# Altium footprint library Button_Switch_SMD.PcbLib: 148 footprints (part 3 of 10)
Each footprint in its own frame and in the unit in brackets; x right, y up, seen from the top. Pads: shape width x height; smd on the part's side, far side on the other; paste and mask are expansions set on the pad; w line width, h text height; cw(c..) or ccw(c..) is an arc to the next point about the centre after c.
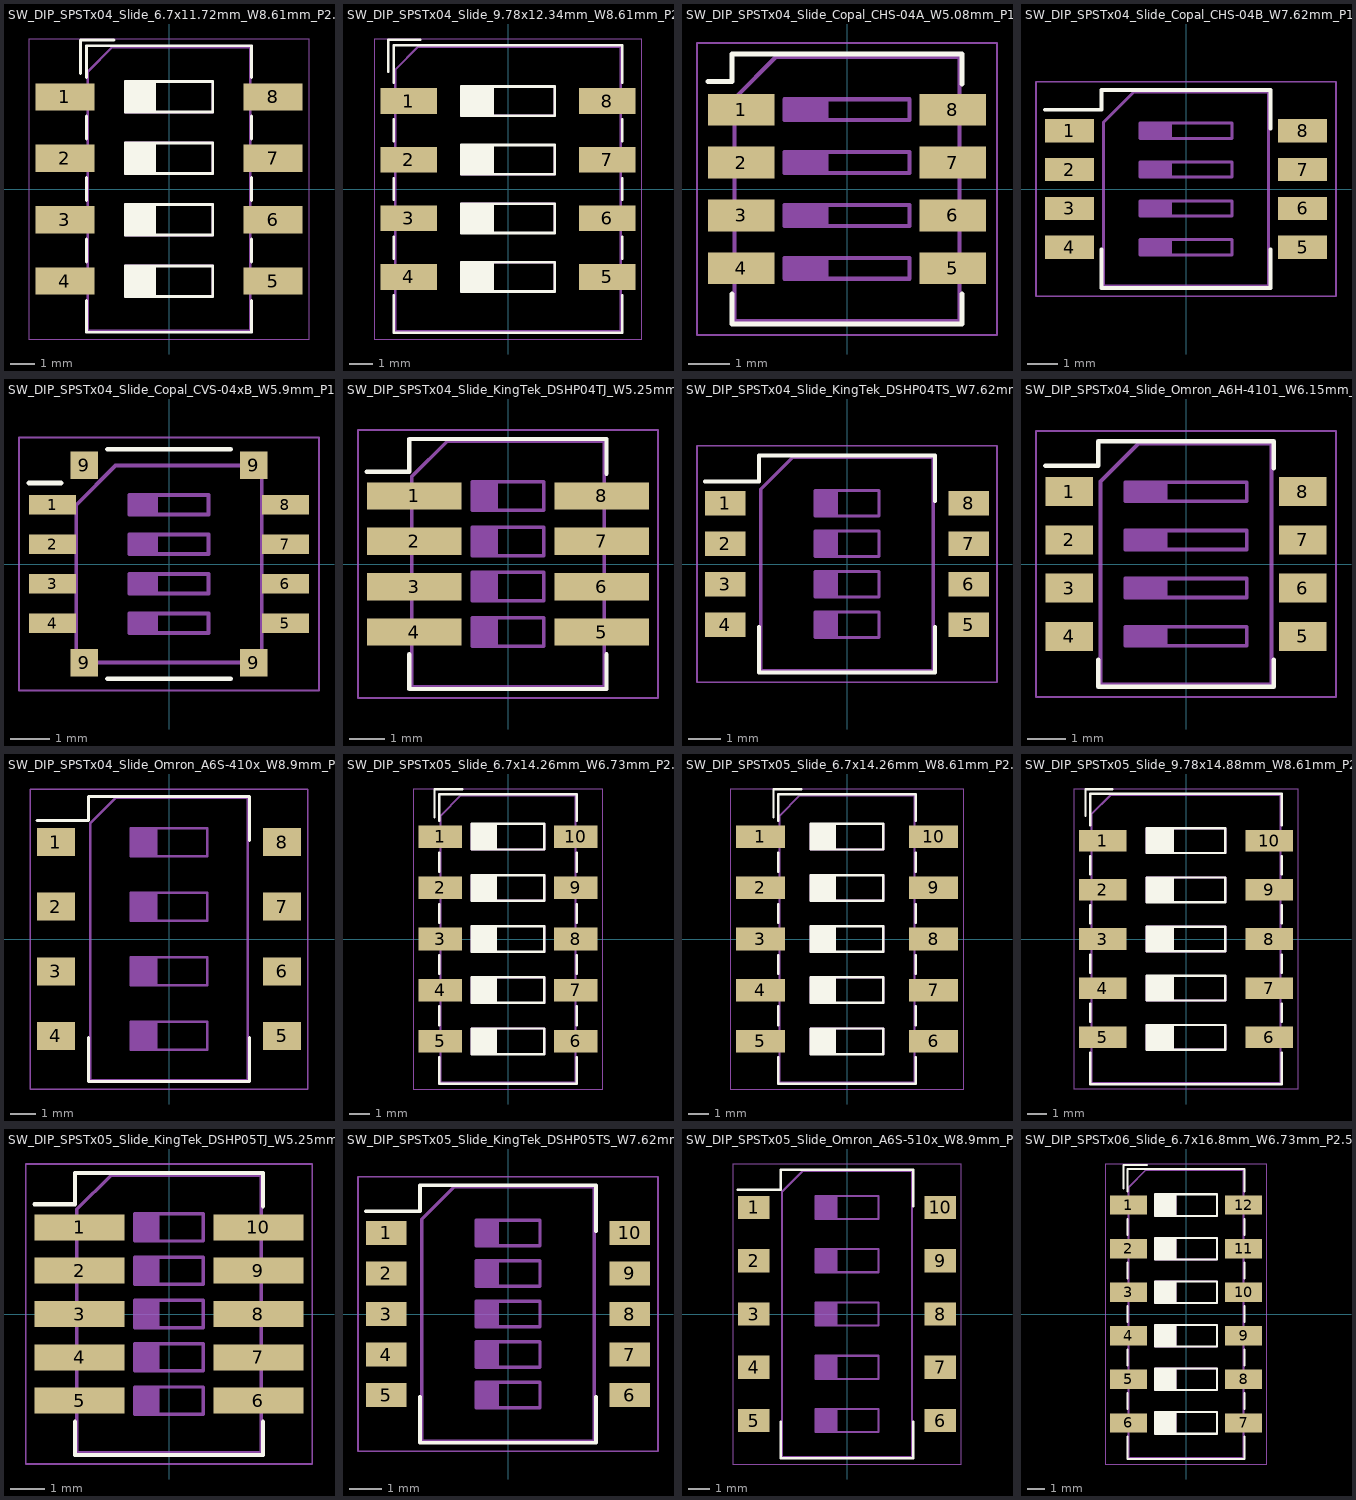
[diagram p2: the footprints below, top view; thin cyan lines are the x and y axes]

## SW_DIP_SPSTx04_Slide_6.7x11.72mm_W8.61mm_P2.54mm_LowProfile [mm]
pads (8):
  rect 2.44x1.12 smd: 1(-4.305,3.81) 2(-4.305,1.27) 3(-4.305,-1.27) 4(-4.305,-3.81) 5(4.305,-3.81) 6(4.305,-1.27) 7(4.305,1.27) 8(4.305,3.81)
F.SilkS:
  lines w0.12: -3.65,4.777 -3.65,6.16 -2.267,6.16 ; -3.41,-4.61 -3.41,-5.92 3.41,-5.92 3.41,-4.61 ; -3.41,-3.01 -3.41,-2.07 ; -3.41,-0.47 -3.41,0.47 ; -3.41,2.07 -3.41,3.01 ; -3.41,4.61 -3.41,5.92 3.41,5.92 3.41,4.61 ; -1.81,-4.375 -0.603,-4.375 ; -1.81,-4.255 -0.603,-4.255 ; -1.81,-4.135 -0.603,-4.135 ; -1.81,-4.015 -0.603,-4.015 ; -1.81,-3.895 -0.603,-3.895 ; -1.81,-3.775 -0.603,-3.775 ; -1.81,-3.655 -0.603,-3.655 ; -1.81,-3.535 -0.603,-3.535 ; -1.81,-3.415 -0.603,-3.415 ; -1.81,-3.295 -0.603,-3.295 ; -1.81,-1.835 -0.603,-1.835 ; -1.81,-1.715 -0.603,-1.715 ; -1.81,-1.595 -0.603,-1.595 ; -1.81,-1.475 -0.603,-1.475 ; -1.81,-1.355 -0.603,-1.355 ; -1.81,-1.235 -0.603,-1.235 ; -1.81,-1.115 -0.603,-1.115 ; -1.81,-0.995 -0.603,-0.995 ; -1.81,-0.875 -0.603,-0.875 ; -1.81,-0.755 -0.603,-0.755 ; -1.81,0.705 -0.603,0.705 ; -1.81,0.825 -0.603,0.825 ; -1.81,0.945 -0.603,0.945 ; -1.81,1.065 -0.603,1.065 ; -1.81,1.185 -0.603,1.185 ; -1.81,1.305 -0.603,1.305 ; -1.81,1.425 -0.603,1.425 ; -1.81,1.545 -0.603,1.545 ; -1.81,1.665 -0.603,1.665 ; -1.81,1.785 -0.603,1.785 ; -1.81,3.245 -0.603,3.245 ; -1.81,3.365 -0.603,3.365 ; -1.81,3.485 -0.603,3.485 ; -1.81,3.605 -0.603,3.605 ; -1.81,3.725 -0.603,3.725 ; -1.81,3.845 -0.603,3.845 ; -1.81,3.965 -0.603,3.965 ; -1.81,4.085 -0.603,4.085 ; -1.81,4.205 -0.603,4.205 ; -1.81,4.325 -0.603,4.325 ; -0.603,-4.445 -0.603,-3.175 ; -0.603,-1.905 -0.603,-0.635 ; -0.603,0.635 -0.603,1.905 ; -0.603,3.175 -0.603,4.445 ; 3.41,-3.01 3.41,-2.07 ; 3.41,-0.47 3.41,0.47 ; 3.41,2.07 3.41,3.01 ; -1.81,-4.445 1.81,-4.445 1.81,-3.175 -1.81,-3.175 -1.81,-4.445 ; -1.81,-1.905 -1.81,-0.635 1.81,-0.635 1.81,-1.905 -1.81,-1.905 ; -1.81,0.635 -1.81,1.905 1.81,1.905 1.81,0.635 -1.81,0.635 ; -1.81,3.175 -1.81,4.445 1.81,4.445 1.81,3.175 -1.81,3.175
F.CrtYd:
  lines w0.05: -5.8,-6.2 -5.8,6.2 5.8,6.2 5.8,-6.2 -5.8,-6.2
F.Fab:
  lines w0.1: -1.81,-4.375 -0.603,-4.375 ; -1.81,-4.275 -0.603,-4.275 ; -1.81,-4.175 -0.603,-4.175 ; -1.81,-4.075 -0.603,-4.075 ; -1.81,-3.975 -0.603,-3.975 ; -1.81,-3.875 -0.603,-3.875 ; -1.81,-3.775 -0.603,-3.775 ; -1.81,-3.675 -0.603,-3.675 ; -1.81,-3.575 -0.603,-3.575 ; -1.81,-3.475 -0.603,-3.475 ; -1.81,-3.375 -0.603,-3.375 ; -1.81,-3.275 -0.603,-3.275 ; -1.81,-1.835 -0.603,-1.835 ; -1.81,-1.735 -0.603,-1.735 ; -1.81,-1.635 -0.603,-1.635 ; -1.81,-1.535 -0.603,-1.535 ; -1.81,-1.435 -0.603,-1.435 ; -1.81,-1.335 -0.603,-1.335 ; -1.81,-1.235 -0.603,-1.235 ; -1.81,-1.135 -0.603,-1.135 ; -1.81,-1.035 -0.603,-1.035 ; -1.81,-0.935 -0.603,-0.935 ; -1.81,-0.835 -0.603,-0.835 ; -1.81,-0.735 -0.603,-0.735 ; -1.81,0.705 -0.603,0.705 ; -1.81,0.805 -0.603,0.805 ; -1.81,0.905 -0.603,0.905 ; -1.81,1.005 -0.603,1.005 ; -1.81,1.105 -0.603,1.105 ; -1.81,1.205 -0.603,1.205 ; -1.81,1.305 -0.603,1.305 ; -1.81,1.405 -0.603,1.405 ; -1.81,1.505 -0.603,1.505 ; -1.81,1.605 -0.603,1.605 ; -1.81,1.705 -0.603,1.705 ; -1.81,1.805 -0.603,1.805 ; -1.81,3.245 -0.603,3.245 ; -1.81,3.345 -0.603,3.345 ; -1.81,3.445 -0.603,3.445 ; -1.81,3.545 -0.603,3.545 ; -1.81,3.645 -0.603,3.645 ; -1.81,3.745 -0.603,3.745 ; -1.81,3.845 -0.603,3.845 ; -1.81,3.945 -0.603,3.945 ; -1.81,4.045 -0.603,4.045 ; -1.81,4.145 -0.603,4.145 ; -1.81,4.245 -0.603,4.245 ; -1.81,4.345 -0.603,4.345 ; -0.603,-4.445 -0.603,-3.175 ; -0.603,-1.905 -0.603,-0.635 ; -0.603,0.635 -0.603,1.905 ; -0.603,3.175 -0.603,4.445 ; -3.35,-5.86 -3.35,4.86 -2.35,5.86 3.35,5.86 3.35,-5.86 -3.35,-5.86 ; -1.81,-4.445 -1.81,-3.175 1.81,-3.175 1.81,-4.445 -1.81,-4.445 ; -1.81,-1.905 1.81,-1.905 1.81,-0.635 -1.81,-0.635 -1.81,-1.905 ; -1.81,0.635 -1.81,1.905 1.81,1.905 1.81,0.635 -1.81,0.635 ; -1.81,3.175 -1.81,4.445 1.81,4.445 1.81,3.175 -1.81,3.175
  text "on" at -0.237,4.766 h0.8
  text "'.Designator'" at 3.252,-3.237 h0.8

## SW_DIP_SPSTx04_Slide_9.78x12.34mm_W8.61mm_P2.54mm [mm]
pads (8):
  rect 2.44x1.12 smd: 1(-4.305,3.81) 2(-4.305,1.27) 3(-4.305,-1.27) 4(-4.305,-3.81) 5(4.305,-3.81) 6(4.305,-1.27) 7(4.305,1.27) 8(4.305,3.81)
F.SilkS:
  lines w0.12: -5.19,5.087 -5.19,6.47 -3.806,6.47 ; -4.95,-4.61 -4.95,-6.23 4.95,-6.23 4.95,-4.61 ; -4.95,-3.01 -4.95,-2.07 ; -4.95,-0.47 -4.95,0.47 ; -4.95,2.07 -4.95,3.01 ; -4.95,4.61 -4.95,6.23 4.95,6.23 4.95,4.61 ; -2.03,-4.375 -0.677,-4.375 ; -2.03,-4.255 -0.677,-4.255 ; -2.03,-4.135 -0.677,-4.135 ; -2.03,-4.015 -0.677,-4.015 ; -2.03,-3.895 -0.677,-3.895 ; -2.03,-3.775 -0.677,-3.775 ; -2.03,-3.655 -0.677,-3.655 ; -2.03,-3.535 -0.677,-3.535 ; -2.03,-3.415 -0.677,-3.415 ; -2.03,-3.295 -0.677,-3.295 ; -2.03,-1.835 -0.677,-1.835 ; -2.03,-1.715 -0.677,-1.715 ; -2.03,-1.595 -0.677,-1.595 ; -2.03,-1.475 -0.677,-1.475 ; -2.03,-1.355 -0.677,-1.355 ; -2.03,-1.235 -0.677,-1.235 ; -2.03,-1.115 -0.677,-1.115 ; -2.03,-0.995 -0.677,-0.995 ; -2.03,-0.875 -0.677,-0.875 ; -2.03,-0.755 -0.677,-0.755 ; -2.03,0.705 -0.677,0.705 ; -2.03,0.825 -0.677,0.825 ; -2.03,0.945 -0.677,0.945 ; -2.03,1.065 -0.677,1.065 ; -2.03,1.185 -0.677,1.185 ; -2.03,1.305 -0.677,1.305 ; -2.03,1.425 -0.677,1.425 ; -2.03,1.545 -0.677,1.545 ; -2.03,1.665 -0.677,1.665 ; -2.03,1.785 -0.677,1.785 ; -2.03,3.245 -0.677,3.245 ; -2.03,3.365 -0.677,3.365 ; -2.03,3.485 -0.677,3.485 ; -2.03,3.605 -0.677,3.605 ; -2.03,3.725 -0.677,3.725 ; -2.03,3.845 -0.677,3.845 ; -2.03,3.965 -0.677,3.965 ; -2.03,4.085 -0.677,4.085 ; -2.03,4.205 -0.677,4.205 ; -2.03,4.325 -0.677,4.325 ; -0.677,-4.445 -0.677,-3.175 ; -0.677,-1.905 -0.677,-0.635 ; -0.677,0.635 -0.677,1.905 ; -0.677,3.175 -0.677,4.445 ; 4.95,-3.01 4.95,-2.07 ; 4.95,-0.47 4.95,0.47 ; 4.95,2.07 4.95,3.01 ; -2.03,-4.445 -2.03,-3.175 2.03,-3.175 2.03,-4.445 -2.03,-4.445 ; -2.03,-1.905 2.03,-1.905 2.03,-0.635 -2.03,-0.635 -2.03,-1.905 ; -2.03,0.635 -2.03,1.905 2.03,1.905 2.03,0.635 -2.03,0.635 ; -2.03,3.175 -2.03,4.445 2.03,4.445 2.03,3.175 -2.03,3.175
F.CrtYd:
  lines w0.05: -5.8,-6.5 5.8,-6.5 5.8,6.5 -5.8,6.5 -5.8,-6.5
F.Fab:
  lines w0.1: -2.03,-4.375 -0.677,-4.375 ; -2.03,-4.275 -0.677,-4.275 ; -2.03,-4.175 -0.677,-4.175 ; -2.03,-4.075 -0.677,-4.075 ; -2.03,-3.975 -0.677,-3.975 ; -2.03,-3.875 -0.677,-3.875 ; -2.03,-3.775 -0.677,-3.775 ; -2.03,-3.675 -0.677,-3.675 ; -2.03,-3.575 -0.677,-3.575 ; -2.03,-3.475 -0.677,-3.475 ; -2.03,-3.375 -0.677,-3.375 ; -2.03,-3.275 -0.677,-3.275 ; -2.03,-1.835 -0.677,-1.835 ; -2.03,-1.735 -0.677,-1.735 ; -2.03,-1.635 -0.677,-1.635 ; -2.03,-1.535 -0.677,-1.535 ; -2.03,-1.435 -0.677,-1.435 ; -2.03,-1.335 -0.677,-1.335 ; -2.03,-1.235 -0.677,-1.235 ; -2.03,-1.135 -0.677,-1.135 ; -2.03,-1.035 -0.677,-1.035 ; -2.03,-0.935 -0.677,-0.935 ; -2.03,-0.835 -0.677,-0.835 ; -2.03,-0.735 -0.677,-0.735 ; -2.03,0.705 -0.677,0.705 ; -2.03,0.805 -0.677,0.805 ; -2.03,0.905 -0.677,0.905 ; -2.03,1.005 -0.677,1.005 ; -2.03,1.105 -0.677,1.105 ; -2.03,1.205 -0.677,1.205 ; -2.03,1.305 -0.677,1.305 ; -2.03,1.405 -0.677,1.405 ; -2.03,1.505 -0.677,1.505 ; -2.03,1.605 -0.677,1.605 ; -2.03,1.705 -0.677,1.705 ; -2.03,1.805 -0.677,1.805 ; -2.03,3.245 -0.677,3.245 ; -2.03,3.345 -0.677,3.345 ; -2.03,3.445 -0.677,3.445 ; -2.03,3.545 -0.677,3.545 ; -2.03,3.645 -0.677,3.645 ; -2.03,3.745 -0.677,3.745 ; -2.03,3.845 -0.677,3.845 ; -2.03,3.945 -0.677,3.945 ; -2.03,4.045 -0.677,4.045 ; -2.03,4.145 -0.677,4.145 ; -2.03,4.245 -0.677,4.245 ; -2.03,4.345 -0.677,4.345 ; -0.677,-4.445 -0.677,-3.175 ; -0.677,-1.905 -0.677,-0.635 ; -0.677,0.635 -0.677,1.905 ; -0.677,3.175 -0.677,4.445 ; -4.89,-6.17 -4.89,5.17 -3.89,6.17 4.89,6.17 4.89,-6.17 -4.89,-6.17 ; -2.03,-4.445 -2.03,-3.175 2.03,-3.175 2.03,-4.445 -2.03,-4.445 ; -2.03,-1.905 2.03,-1.905 2.03,-0.635 -2.03,-0.635 -2.03,-1.905 ; -2.03,0.635 2.03,0.635 2.03,1.905 -2.03,1.905 -2.03,0.635 ; -2.03,3.175 2.03,3.175 2.03,4.445 -2.03,4.445 -2.03,3.175
  text "on" at 0.643,4.921 h0.8
  text "'.Designator'" at 4.132,-3.237 h0.8

## SW_DIP_SPSTx04_Slide_Copal_CHS-04A_W5.08mm_P1.27mm_JPin [mm]
pads (8):
  rect 1.6x0.76 smd: 1(-2.54,1.905) 2(-2.54,0.635) 3(-2.54,-0.635) 4(-2.54,-1.905) 5(2.54,-1.905) 6(2.54,-0.635) 7(2.54,0.635) 8(2.54,1.905)
F.SilkS:
  lines w0.12: -3.34,2.585 -2.761,2.585 -2.761,3.235 2.76,3.235 2.76,2.525 ; -2.761,-2.525 -2.761,-3.235 2.76,-3.235 2.76,-2.525
F.CrtYd:
  lines w0.05: -3.6,-3.5 -3.6,3.5 3.6,3.5 3.6,-3.5 -3.6,-3.5
F.Fab:
  lines w0.1: -1.5,-2.055 -0.5,-2.055 ; -1.5,-1.955 -0.5,-1.955 ; -1.5,-1.855 -0.5,-1.855 ; -1.5,-1.755 -0.5,-1.755 ; -1.5,-0.785 -0.5,-0.785 ; -1.5,-0.685 -0.5,-0.685 ; -1.5,-0.585 -0.5,-0.585 ; -1.5,-0.485 -0.5,-0.485 ; -1.5,0.485 -0.5,0.485 ; -1.5,0.585 -0.5,0.585 ; -1.5,0.685 -0.5,0.685 ; -1.5,0.785 -0.5,0.785 ; -1.5,1.755 -0.5,1.755 ; -1.5,1.855 -0.5,1.855 ; -1.5,1.955 -0.5,1.955 ; -1.5,2.055 -0.5,2.055 ; -0.5,-2.155 -0.5,-1.655 ; -0.5,-0.885 -0.5,-0.385 ; -0.5,0.385 -0.5,0.885 ; -0.5,1.655 -0.5,2.155 ; -2.7,-3.175 -2.7,2.175 -1.7,3.175 2.7,3.175 2.7,-3.175 -2.7,-3.175 ; -1.5,-2.155 1.5,-2.155 1.5,-1.655 -1.5,-1.655 -1.5,-2.155 ; -1.5,-0.885 -1.5,-0.385 1.5,-0.385 1.5,-0.885 -1.5,-0.885 ; -1.5,0.385 -1.5,0.885 1.5,0.885 1.5,0.385 -1.5,0.385 ; -1.5,1.655 -1.5,2.155 1.5,2.155 1.5,1.655 -1.5,1.655
  text "'.Designator'" at 2.772,-3.237 h0.8
  text "on" at 0.165,2.278 h0.8

## SW_DIP_SPSTx04_Slide_Copal_CHS-04B_W7.62mm_P1.27mm [mm]
pads (8):
  rect 1.6x0.76 smd: 1(-3.81,1.905) 2(-3.81,0.635) 3(-3.81,-0.635) 4(-3.81,-1.905) 5(3.81,-1.905) 6(3.81,-0.635) 7(3.81,0.635) 8(3.81,1.905)
F.SilkS:
  lines w0.12: -4.61,2.585 -2.76,2.585 -2.76,3.235 2.76,3.235 2.76,1.966 ; -2.76,-1.965 -2.76,-3.235 2.76,-3.235 2.76,-1.965
F.CrtYd:
  lines w0.05: -4.9,-3.5 -4.9,3.5 4.9,3.5 4.9,-3.5 -4.9,-3.5
F.Fab:
  lines w0.1: -1.5,-2.055 -0.5,-2.055 ; -1.5,-1.955 -0.5,-1.955 ; -1.5,-1.855 -0.5,-1.855 ; -1.5,-1.755 -0.5,-1.755 ; -1.5,-0.785 -0.5,-0.785 ; -1.5,-0.685 -0.5,-0.685 ; -1.5,-0.585 -0.5,-0.585 ; -1.5,-0.485 -0.5,-0.485 ; -1.5,0.485 -0.5,0.485 ; -1.5,0.585 -0.5,0.585 ; -1.5,0.685 -0.5,0.685 ; -1.5,0.785 -0.5,0.785 ; -1.5,1.755 -0.5,1.755 ; -1.5,1.855 -0.5,1.855 ; -1.5,1.955 -0.5,1.955 ; -1.5,2.055 -0.5,2.055 ; -0.5,-2.155 -0.5,-1.655 ; -0.5,-0.885 -0.5,-0.385 ; -0.5,0.385 -0.5,0.885 ; -0.5,1.655 -0.5,2.155 ; -2.7,-3.175 -2.7,2.175 -1.7,3.175 2.7,3.175 2.7,-3.175 -2.7,-3.175 ; -1.5,-2.155 1.5,-2.155 1.5,-1.655 -1.5,-1.655 -1.5,-2.155 ; -1.5,-0.885 1.5,-0.885 1.5,-0.385 -1.5,-0.385 -1.5,-0.885 ; -1.5,0.385 -1.5,0.885 1.5,0.885 1.5,0.385 -1.5,0.385 ; -1.5,1.655 1.5,1.655 1.5,2.155 -1.5,2.155 -1.5,1.655
  text "on" at -0.47,2.278 h0.8
  text "'.Designator'" at 2.772,-3.237 h0.8

## SW_DIP_SPSTx04_Slide_Copal_CVS-04xB_W5.9mm_P1mm [mm]
pads (12):
  rect 1.2x0.5 smd: 1(-2.95,1.5) 2(-2.95,0.5) 3(-2.95,-0.5) 4(-2.95,-1.5) 5(2.95,-1.5) 6(2.95,-0.5) 7(2.95,0.5) 8(2.95,1.5)
  rect 0.7x0.7 smd: 9(-2.15,-2.5) 9(-2.15,2.5) 9(2.15,-2.5) 9(2.15,2.5)
F.SilkS:
  lines w0.12: -3.55,2.05 -2.739,2.05 ; -1.56,-2.91 1.561,-2.91 ; -1.56,2.91 1.561,2.91
F.CrtYd:
  lines w0.05: -3.8,-3.2 -3.8,3.2 3.8,3.2 3.8,-3.2 -3.8,-3.2
F.Fab:
  lines w0.1: -1,-1.65 -0.333,-1.65 ; -1,-1.55 -0.333,-1.55 ; -1,-1.45 -0.333,-1.45 ; -1,-1.35 -0.333,-1.35 ; -1,-0.65 -0.333,-0.65 ; -1,-0.55 -0.333,-0.55 ; -1,-0.45 -0.333,-0.45 ; -1,-0.35 -0.333,-0.35 ; -1,0.35 -0.333,0.35 ; -1,0.45 -0.333,0.45 ; -1,0.55 -0.333,0.55 ; -1,0.65 -0.333,0.65 ; -1,1.35 -0.333,1.35 ; -1,1.45 -0.333,1.45 ; -1,1.55 -0.333,1.55 ; -1,1.65 -0.333,1.65 ; -0.333,-1.75 -0.333,-1.25 ; -0.333,-0.75 -0.333,-0.25 ; -0.333,0.25 -0.333,0.75 ; -0.333,1.25 -0.333,1.75 ; -2.35,-2.5 2.35,-2.5 2.35,2.5 -1.35,2.5 -2.35,1.5 -2.35,-2.5 ; -1,-1.75 -1,-1.25 1,-1.25 1,-1.75 -1,-1.75 ; -1,-0.75 1,-0.75 1,-0.25 -1,-0.25 -1,-0.75 ; -1,0.25 -1,0.75 1,0.75 1,0.25 -1,0.25 ; -1,1.25 -1,1.75 1,1.75 1,1.25 -1,1.25
  text "on" at -0.465,1.738 h0.8
  text "'.Designator'" at 2.347,-3.237 h0.8

## SW_DIP_SPSTx04_Slide_KingTek_DSHP04TJ_W5.25mm_P1.27mm_JPin [mm]
pads (8):
  rect 2.65x0.76 smd: 1(-2.625,1.905) 2(-2.625,0.635) 3(-2.625,-0.635) 4(-2.625,-1.905) 5(2.625,-1.905) 6(2.625,-0.635) 7(2.625,0.635) 8(2.625,1.905)
F.SilkS:
  lines w0.12: -3.951,2.585 -2.761,2.585 -2.761,3.5 2.76,3.5 2.76,2.525 ; -2.761,-2.525 -2.761,-3.5 2.76,-3.5 2.76,-2.525
F.CrtYd:
  lines w0.05: -4.2,-3.75 4.2,-3.75 4.2,3.75 -4.2,3.75 -4.2,-3.75
F.Fab:
  lines w0.1: -1,-2.205 -0.333,-2.205 ; -1,-2.105 -0.333,-2.105 ; -1,-2.005 -0.333,-2.005 ; -1,-1.905 -0.333,-1.905 ; -1,-1.805 -0.333,-1.805 ; -1,-1.705 -0.333,-1.705 ; -1,-1.605 -0.333,-1.605 ; -1,-0.935 -0.333,-0.935 ; -1,-0.835 -0.333,-0.835 ; -1,-0.735 -0.333,-0.735 ; -1,-0.635 -0.333,-0.635 ; -1,-0.535 -0.333,-0.535 ; -1,-0.435 -0.333,-0.435 ; -1,-0.335 -0.333,-0.335 ; -1,0.335 -0.333,0.335 ; -1,0.435 -0.333,0.435 ; -1,0.535 -0.333,0.535 ; -1,0.635 -0.333,0.635 ; -1,0.735 -0.333,0.735 ; -1,0.835 -0.333,0.835 ; -1,0.935 -0.333,0.935 ; -1,1.605 -0.333,1.605 ; -1,1.705 -0.333,1.705 ; -1,1.805 -0.333,1.805 ; -1,1.905 -0.333,1.905 ; -1,2.005 -0.333,2.005 ; -1,2.105 -0.333,2.105 ; -1,2.205 -0.333,2.205 ; -0.333,-2.305 -0.333,-1.505 ; -0.333,-1.035 -0.333,-0.235 ; -0.333,0.235 -0.333,1.035 ; -0.333,1.505 -0.333,2.305 ; -2.7,-3.44 2.7,-3.44 2.7,3.44 -1.7,3.44 -2.7,2.44 -2.7,-3.44 ; -1,-2.305 -1,-1.505 1,-1.505 1,-2.305 -1,-2.305 ; -1,-1.035 -1,-0.235 1,-0.235 1,-1.035 -1,-1.035 ; -1,0.235 1,0.235 1,1.035 -1,1.035 -1,0.235 ; -1,1.505 1,1.505 1,2.305 -1,2.305 -1,1.505
  text "on" at -0.127,2.486 h0.8
  text "'.Designator'" at 2.522,-3.237 h0.8

## SW_DIP_SPSTx04_Slide_KingTek_DSHP04TS_W7.62mm_P1.27mm [mm]
pads (8):
  rect 1.27x0.76 smd: 1(-3.81,1.905) 2(-3.81,0.635) 3(-3.81,-0.635) 4(-3.81,-1.905) 5(3.81,-1.905) 6(3.81,-0.635) 7(3.81,0.635) 8(3.81,1.905)
F.SilkS:
  lines w0.12: -4.446,2.585 -2.76,2.585 -2.76,3.401 2.76,3.401 2.76,1.966 ; -2.76,-1.966 -2.76,-3.401 2.76,-3.401 2.76,-1.966
F.CrtYd:
  lines w0.05: -4.7,-3.7 -4.7,3.7 4.7,3.7 4.7,-3.7 -4.7,-3.7
F.Fab:
  lines w0.1: -1,-2.205 -0.333,-2.205 ; -1,-2.105 -0.333,-2.105 ; -1,-2.005 -0.333,-2.005 ; -1,-1.905 -0.333,-1.905 ; -1,-1.805 -0.333,-1.805 ; -1,-1.705 -0.333,-1.705 ; -1,-1.605 -0.333,-1.605 ; -1,-0.935 -0.333,-0.935 ; -1,-0.835 -0.333,-0.835 ; -1,-0.735 -0.333,-0.735 ; -1,-0.635 -0.333,-0.635 ; -1,-0.535 -0.333,-0.535 ; -1,-0.435 -0.333,-0.435 ; -1,-0.335 -0.333,-0.335 ; -1,0.335 -0.333,0.335 ; -1,0.435 -0.333,0.435 ; -1,0.535 -0.333,0.535 ; -1,0.635 -0.333,0.635 ; -1,0.735 -0.333,0.735 ; -1,0.835 -0.333,0.835 ; -1,0.935 -0.333,0.935 ; -1,1.605 -0.333,1.605 ; -1,1.705 -0.333,1.705 ; -1,1.805 -0.333,1.805 ; -1,1.905 -0.333,1.905 ; -1,2.005 -0.333,2.005 ; -1,2.105 -0.333,2.105 ; -1,2.205 -0.333,2.205 ; -0.333,-2.305 -0.333,-1.505 ; -0.333,-1.035 -0.333,-0.235 ; -0.333,0.235 -0.333,1.035 ; -0.333,1.505 -0.333,2.305 ; -2.7,-3.34 -2.7,2.34 -1.7,3.34 2.7,3.34 2.7,-3.34 -2.7,-3.34 ; -1,-2.305 -1,-1.505 1,-1.505 1,-2.305 -1,-2.305 ; -1,-1.035 1,-1.035 1,-0.235 -1,-0.235 -1,-1.035 ; -1,0.235 1,0.235 1,1.035 -1,1.035 -1,0.235 ; -1,1.505 1,1.505 1,2.305 -1,2.305 -1,1.505
  text "'.Designator'" at 2.522,-3.237 h0.8
  text "on" at -0.72,2.436 h0.8

## SW_DIP_SPSTx04_Slide_Omron_A6H-4101_W6.15mm_P1.27mm [mm]
pads (8):
  rect 1.25x0.76 smd: 1(-3.075,1.905) 2(-3.075,0.635) 3(-3.075,-0.635) 4(-3.075,-1.905) 5(3.075,-1.905) 6(3.075,-0.635) 7(3.075,0.635) 8(3.075,1.905)
F.SilkS:
  lines w0.12: -3.7,2.585 -2.309,2.585 -2.309,3.235 2.31,3.235 2.31,2.525 ; -2.309,-2.525 -2.309,-3.235 2.31,-3.235 2.31,-2.525
F.CrtYd:
  lines w0.05: -3.95,-3.5 -3.95,3.5 3.95,3.5 3.95,-3.5 -3.95,-3.5
F.Fab:
  lines w0.1: -1.6,-2.055 -0.533,-2.055 ; -1.6,-1.955 -0.533,-1.955 ; -1.6,-1.855 -0.533,-1.855 ; -1.6,-1.755 -0.533,-1.755 ; -1.6,-0.785 -0.533,-0.785 ; -1.6,-0.685 -0.533,-0.685 ; -1.6,-0.585 -0.533,-0.585 ; -1.6,-0.485 -0.533,-0.485 ; -1.6,0.485 -0.533,0.485 ; -1.6,0.585 -0.533,0.585 ; -1.6,0.685 -0.533,0.685 ; -1.6,0.785 -0.533,0.785 ; -1.6,1.755 -0.533,1.755 ; -1.6,1.855 -0.533,1.855 ; -1.6,1.955 -0.533,1.955 ; -1.6,2.055 -0.533,2.055 ; -0.533,-2.155 -0.533,-1.655 ; -0.533,-0.885 -0.533,-0.385 ; -0.533,0.385 -0.533,0.885 ; -0.533,1.655 -0.533,2.155 ; -2.25,-3.175 -2.25,2.175 -1.25,3.175 2.25,3.175 2.25,-3.175 -2.25,-3.175 ; -1.6,-2.155 1.6,-2.155 1.6,-1.655 -1.6,-1.655 -1.6,-2.155 ; -1.6,-0.885 -1.6,-0.385 1.6,-0.385 1.6,-0.885 -1.6,-0.885 ; -1.6,0.385 1.6,0.385 1.6,0.885 -1.6,0.885 -1.6,0.385 ; -1.6,1.655 1.6,1.655 1.6,2.155 -1.6,2.155 -1.6,1.655
  text "on" at 0.009,2.445 h0.46
  text "'.Designator'" at 2.307,-1.841 h0.46

## SW_DIP_SPSTx04_Slide_Omron_A6S-410x_W8.9mm_P2.54mm [mm]
pads (8):
  rect 1.5x1.1 smd: 1(-4.45,3.81) 2(-4.45,1.27) 3(-4.45,-1.27) 4(-4.45,-3.81) 5(4.45,-3.81) 6(4.45,-1.27) 7(4.45,1.27) 8(4.45,3.81)
F.SilkS:
  lines w0.12: -5.2,4.661 -3.16,4.661 -3.16,5.61 3.16,5.61 3.16,3.871 ; -3.16,-3.87 -3.16,-5.61 3.16,-5.61 3.16,-3.87
F.CrtYd:
  lines w0.05: -5.45,-5.9 -5.45,5.9 5.45,5.9 5.45,-5.9 -5.45,-5.9
F.Fab:
  lines w0.1: -1.5,-4.26 -0.5,-4.26 ; -1.5,-4.16 -0.5,-4.16 ; -1.5,-4.06 -0.5,-4.06 ; -1.5,-3.96 -0.5,-3.96 ; -1.5,-3.86 -0.5,-3.86 ; -1.5,-3.76 -0.5,-3.76 ; -1.5,-3.66 -0.5,-3.66 ; -1.5,-3.56 -0.5,-3.56 ; -1.5,-3.46 -0.5,-3.46 ; -1.5,-3.36 -0.5,-3.36 ; -1.5,-1.72 -0.5,-1.72 ; -1.5,-1.62 -0.5,-1.62 ; -1.5,-1.52 -0.5,-1.52 ; -1.5,-1.42 -0.5,-1.42 ; -1.5,-1.32 -0.5,-1.32 ; -1.5,-1.22 -0.5,-1.22 ; -1.5,-1.12 -0.5,-1.12 ; -1.5,-1.02 -0.5,-1.02 ; -1.5,-0.92 -0.5,-0.92 ; -1.5,-0.82 -0.5,-0.82 ; -1.5,0.82 -0.5,0.82 ; -1.5,0.92 -0.5,0.92 ; -1.5,1.02 -0.5,1.02 ; -1.5,1.12 -0.5,1.12 ; -1.5,1.22 -0.5,1.22 ; -1.5,1.32 -0.5,1.32 ; -1.5,1.42 -0.5,1.42 ; -1.5,1.52 -0.5,1.52 ; -1.5,1.62 -0.5,1.62 ; -1.5,1.72 -0.5,1.72 ; -1.5,3.36 -0.5,3.36 ; -1.5,3.46 -0.5,3.46 ; -1.5,3.56 -0.5,3.56 ; -1.5,3.66 -0.5,3.66 ; -1.5,3.76 -0.5,3.76 ; -1.5,3.86 -0.5,3.86 ; -1.5,3.96 -0.5,3.96 ; -1.5,4.06 -0.5,4.06 ; -1.5,4.16 -0.5,4.16 ; -1.5,4.26 -0.5,4.26 ; -0.5,-3.26 -0.5,-4.36 -1.5,-4.36 ; -0.5,-0.72 -0.5,-1.82 -1.5,-1.82 ; -0.5,0.72 -0.5,1.82 ; -0.5,4.36 -0.5,3.26 -1.5,3.26 ; -1.5,-4.36 -1.5,-3.26 1.5,-3.26 1.5,-4.36 -1.5,-4.36 ; -1.5,-1.82 -1.5,-0.72 1.5,-0.72 1.5,-1.82 -1.5,-1.82 ; -1.5,3.26 -1.5,4.36 1.5,4.36 1.5,3.26 -1.5,3.26 ; -3.1,-5.55 -3.1,4.55 -2.1,5.55 3.1,5.55 3.1,-5.55 -3.1,-5.55 ; -1.5,0.72 -1.5,1.82 1.5,1.82 1.5,0.72 -1.5,0.72
  text "on" at -0.59,4.568 h0.8
  text "'.Designator'" at 2.972,-3.237 h0.8

## SW_DIP_SPSTx05_Slide_6.7x14.26mm_W6.73mm_P2.54mm_LowProfile_JPin [mm]
pads (10):
  rect 2.16x1.12 smd: 1(-3.365,5.08) 2(-3.365,2.54) 3(-3.365,0) 4(-3.365,-2.54) 5(-3.365,-5.08) 6(3.365,-5.08) 7(3.365,-2.54) 8(3.365,0) 9(3.365,2.54) 10(3.365,5.08)
F.SilkS:
  lines w0.12: -3.65,6.047 -3.65,7.43 -2.267,7.43 ; -3.41,-5.88 -3.41,-7.191 3.41,-7.191 3.41,-5.88 ; -3.41,-4.28 -3.41,-3.34 ; -3.41,-1.74 -3.41,-0.8 ; -3.41,0.8 -3.41,1.74 ; -3.41,3.34 -3.41,4.28 ; -3.41,5.88 -3.41,7.19 3.41,7.19 3.41,5.88 ; -1.81,-5.645 -0.603,-5.645 ; -1.81,-5.525 -0.603,-5.525 ; -1.81,-5.405 -0.603,-5.405 ; -1.81,-5.285 -0.603,-5.285 ; -1.81,-5.165 -0.603,-5.165 ; -1.81,-5.045 -0.603,-5.045 ; -1.81,-4.925 -0.603,-4.925 ; -1.81,-4.805 -0.603,-4.805 ; -1.81,-4.685 -0.603,-4.685 ; -1.81,-4.565 -0.603,-4.565 ; -1.81,-3.105 -0.603,-3.105 ; -1.81,-2.985 -0.603,-2.985 ; -1.81,-2.865 -0.603,-2.865 ; -1.81,-2.745 -0.603,-2.745 ; -1.81,-2.625 -0.603,-2.625 ; -1.81,-2.505 -0.603,-2.505 ; -1.81,-2.385 -0.603,-2.385 ; -1.81,-2.265 -0.603,-2.265 ; -1.81,-2.145 -0.603,-2.145 ; -1.81,-2.025 -0.603,-2.025 ; -1.81,-0.565 -0.603,-0.565 ; -1.81,-0.445 -0.603,-0.445 ; -1.81,-0.325 -0.603,-0.325 ; -1.81,-0.205 -0.603,-0.205 ; -1.81,-0.085 -0.603,-0.085 ; -1.81,0.035 -0.603,0.035 ; -1.81,0.155 -0.603,0.155 ; -1.81,0.275 -0.603,0.275 ; -1.81,0.395 -0.603,0.395 ; -1.81,0.515 -0.603,0.515 ; -1.81,1.975 -0.603,1.975 ; -1.81,2.095 -0.603,2.095 ; -1.81,2.215 -0.603,2.215 ; -1.81,2.335 -0.603,2.335 ; -1.81,2.455 -0.603,2.455 ; -1.81,2.575 -0.603,2.575 ; -1.81,2.695 -0.603,2.695 ; -1.81,2.815 -0.603,2.815 ; -1.81,2.935 -0.603,2.935 ; -1.81,3.055 -0.603,3.055 ; -1.81,4.515 -0.603,4.515 ; -1.81,4.635 -0.603,4.635 ; -1.81,4.755 -0.603,4.755 ; -1.81,4.875 -0.603,4.875 ; -1.81,4.995 -0.603,4.995 ; -1.81,5.115 -0.603,5.115 ; -1.81,5.235 -0.603,5.235 ; -1.81,5.355 -0.603,5.355 ; -1.81,5.475 -0.603,5.475 ; -1.81,5.595 -0.603,5.595 ; -0.603,-5.715 -0.603,-4.445 ; -0.603,-3.175 -0.603,-1.905 ; -0.603,-0.635 -0.603,0.635 ; -0.603,1.905 -0.603,3.175 ; -0.603,4.445 -0.603,5.715 ; 3.41,-4.28 3.41,-3.34 ; 3.41,-1.74 3.41,-0.8 ; 3.41,0.8 3.41,1.74 ; 3.41,3.34 3.41,4.28 ; -1.81,-5.715 1.81,-5.715 1.81,-4.445 -1.81,-4.445 -1.81,-5.715 ; -1.81,-3.175 -1.81,-1.905 1.81,-1.905 1.81,-3.175 -1.81,-3.175 ; -1.81,-0.635 1.81,-0.635 1.81,0.635 -1.81,0.635 -1.81,-0.635 ; -1.81,1.905 -1.81,3.175 1.81,3.175 1.81,1.905 -1.81,1.905 ; -1.81,4.445 -1.81,5.715 1.81,5.715 1.81,4.445 -1.81,4.445
F.CrtYd:
  lines w0.05: -4.7,-7.45 -4.7,7.45 4.7,7.45 4.7,-7.45 -4.7,-7.45
F.Fab:
  lines w0.1: -1.81,-5.645 -0.603,-5.645 ; -1.81,-5.545 -0.603,-5.545 ; -1.81,-5.445 -0.603,-5.445 ; -1.81,-5.345 -0.603,-5.345 ; -1.81,-5.245 -0.603,-5.245 ; -1.81,-5.145 -0.603,-5.145 ; -1.81,-5.045 -0.603,-5.045 ; -1.81,-4.945 -0.603,-4.945 ; -1.81,-4.845 -0.603,-4.845 ; -1.81,-4.745 -0.603,-4.745 ; -1.81,-4.645 -0.603,-4.645 ; -1.81,-4.545 -0.603,-4.545 ; -1.81,-3.105 -0.603,-3.105 ; -1.81,-3.005 -0.603,-3.005 ; -1.81,-2.905 -0.603,-2.905 ; -1.81,-2.805 -0.603,-2.805 ; -1.81,-2.705 -0.603,-2.705 ; -1.81,-2.605 -0.603,-2.605 ; -1.81,-2.505 -0.603,-2.505 ; -1.81,-2.405 -0.603,-2.405 ; -1.81,-2.305 -0.603,-2.305 ; -1.81,-2.205 -0.603,-2.205 ; -1.81,-2.105 -0.603,-2.105 ; -1.81,-2.005 -0.603,-2.005 ; -1.81,-0.565 -0.603,-0.565 ; -1.81,-0.465 -0.603,-0.465 ; -1.81,-0.365 -0.603,-0.365 ; -1.81,-0.265 -0.603,-0.265 ; -1.81,-0.165 -0.603,-0.165 ; -1.81,-0.065 -0.603,-0.065 ; -1.81,0.035 -0.603,0.035 ; -1.81,0.135 -0.603,0.135 ; -1.81,0.235 -0.603,0.235 ; -1.81,0.335 -0.603,0.335 ; -1.81,0.435 -0.603,0.435 ; -1.81,0.535 -0.603,0.535 ; -1.81,1.975 -0.603,1.975 ; -1.81,2.075 -0.603,2.075 ; -1.81,2.175 -0.603,2.175 ; -1.81,2.275 -0.603,2.275 ; -1.81,2.375 -0.603,2.375 ; -1.81,2.475 -0.603,2.475 ; -1.81,2.575 -0.603,2.575 ; -1.81,2.675 -0.603,2.675 ; -1.81,2.775 -0.603,2.775 ; -1.81,2.875 -0.603,2.875 ; -1.81,2.975 -0.603,2.975 ; -1.81,3.075 -0.603,3.075 ; -1.81,4.515 -0.603,4.515 ; -1.81,4.615 -0.603,4.615 ; -1.81,4.715 -0.603,4.715 ; -1.81,4.815 -0.603,4.815 ; -1.81,4.915 -0.603,4.915 ; -1.81,5.015 -0.603,5.015 ; -1.81,5.115 -0.603,5.115 ; -1.81,5.215 -0.603,5.215 ; -1.81,5.315 -0.603,5.315 ; -1.81,5.415 -0.603,5.415 ; -1.81,5.515 -0.603,5.515 ; -1.81,5.615 -0.603,5.615 ; -0.603,-5.715 -0.603,-4.445 ; -0.603,-3.175 -0.603,-1.905 ; -0.603,-0.635 -0.603,0.635 ; -0.603,1.905 -0.603,3.175 ; -0.603,4.445 -0.603,5.715 ; -3.35,-7.13 -3.35,6.13 -2.35,7.13 3.35,7.13 3.35,-7.13 -3.35,-7.13 ; -1.81,-5.715 -1.81,-4.445 1.81,-4.445 1.81,-5.715 -1.81,-5.715 ; -1.81,-3.175 -1.81,-1.905 1.81,-1.905 1.81,-3.175 -1.81,-3.175 ; -1.81,-0.635 1.81,-0.635 1.81,0.635 -1.81,0.635 -1.81,-0.635 ; -1.81,1.905 -1.81,3.175 1.81,3.175 1.81,1.905 -1.81,1.905 ; -1.81,4.445 1.81,4.445 1.81,5.715 -1.81,5.715 -1.81,4.445
  text "'.Designator'" at 3.252,-3.237 h0.8
  text "on" at 0.233,6.036 h0.8

## SW_DIP_SPSTx05_Slide_6.7x14.26mm_W8.61mm_P2.54mm_LowProfile [mm]
pads (10):
  rect 2.44x1.12 smd: 1(-4.305,5.08) 2(-4.305,2.54) 3(-4.305,0) 4(-4.305,-2.54) 5(-4.305,-5.08) 6(4.305,-5.08) 7(4.305,-2.54) 8(4.305,0) 9(4.305,2.54) 10(4.305,5.08)
F.SilkS:
  lines w0.12: -3.65,6.047 -3.65,7.43 -2.267,7.43 ; -3.41,-5.88 -3.41,-7.191 3.41,-7.191 3.41,-5.88 ; -3.41,-4.28 -3.41,-3.34 ; -3.41,-1.74 -3.41,-0.8 ; -3.41,0.8 -3.41,1.74 ; -3.41,3.34 -3.41,4.28 ; -3.41,5.88 -3.41,7.19 3.41,7.19 3.41,5.88 ; -1.81,-5.645 -0.603,-5.645 ; -1.81,-5.525 -0.603,-5.525 ; -1.81,-5.405 -0.603,-5.405 ; -1.81,-5.285 -0.603,-5.285 ; -1.81,-5.165 -0.603,-5.165 ; -1.81,-5.045 -0.603,-5.045 ; -1.81,-4.925 -0.603,-4.925 ; -1.81,-4.805 -0.603,-4.805 ; -1.81,-4.685 -0.603,-4.685 ; -1.81,-4.565 -0.603,-4.565 ; -1.81,-3.105 -0.603,-3.105 ; -1.81,-2.985 -0.603,-2.985 ; -1.81,-2.865 -0.603,-2.865 ; -1.81,-2.745 -0.603,-2.745 ; -1.81,-2.625 -0.603,-2.625 ; -1.81,-2.505 -0.603,-2.505 ; -1.81,-2.385 -0.603,-2.385 ; -1.81,-2.265 -0.603,-2.265 ; -1.81,-2.145 -0.603,-2.145 ; -1.81,-2.025 -0.603,-2.025 ; -1.81,-0.565 -0.603,-0.565 ; -1.81,-0.445 -0.603,-0.445 ; -1.81,-0.325 -0.603,-0.325 ; -1.81,-0.205 -0.603,-0.205 ; -1.81,-0.085 -0.603,-0.085 ; -1.81,0.035 -0.603,0.035 ; -1.81,0.155 -0.603,0.155 ; -1.81,0.275 -0.603,0.275 ; -1.81,0.395 -0.603,0.395 ; -1.81,0.515 -0.603,0.515 ; -1.81,1.975 -0.603,1.975 ; -1.81,2.095 -0.603,2.095 ; -1.81,2.215 -0.603,2.215 ; -1.81,2.335 -0.603,2.335 ; -1.81,2.455 -0.603,2.455 ; -1.81,2.575 -0.603,2.575 ; -1.81,2.695 -0.603,2.695 ; -1.81,2.815 -0.603,2.815 ; -1.81,2.935 -0.603,2.935 ; -1.81,3.055 -0.603,3.055 ; -1.81,4.515 -0.603,4.515 ; -1.81,4.635 -0.603,4.635 ; -1.81,4.755 -0.603,4.755 ; -1.81,4.875 -0.603,4.875 ; -1.81,4.995 -0.603,4.995 ; -1.81,5.115 -0.603,5.115 ; -1.81,5.235 -0.603,5.235 ; -1.81,5.355 -0.603,5.355 ; -1.81,5.475 -0.603,5.475 ; -1.81,5.595 -0.603,5.595 ; -0.603,-5.715 -0.603,-4.445 ; -0.603,-3.175 -0.603,-1.905 ; -0.603,-0.635 -0.603,0.635 ; -0.603,1.905 -0.603,3.175 ; -0.603,4.445 -0.603,5.715 ; 3.41,-4.28 3.41,-3.34 ; 3.41,-1.74 3.41,-0.8 ; 3.41,0.8 3.41,1.74 ; 3.41,3.34 3.41,4.28 ; -1.81,-5.715 1.81,-5.715 1.81,-4.445 -1.81,-4.445 -1.81,-5.715 ; -1.81,-3.175 1.81,-3.175 1.81,-1.905 -1.81,-1.905 -1.81,-3.175 ; -1.81,-0.635 -1.81,0.635 1.81,0.635 1.81,-0.635 -1.81,-0.635 ; -1.81,1.905 1.81,1.905 1.81,3.175 -1.81,3.175 -1.81,1.905 ; -1.81,4.445 -1.81,5.715 1.81,5.715 1.81,4.445 -1.81,4.445
F.CrtYd:
  lines w0.05: -5.8,-7.45 5.8,-7.45 5.8,7.45 -5.8,7.45 -5.8,-7.45
F.Fab:
  lines w0.1: -1.81,-5.645 -0.603,-5.645 ; -1.81,-5.545 -0.603,-5.545 ; -1.81,-5.445 -0.603,-5.445 ; -1.81,-5.345 -0.603,-5.345 ; -1.81,-5.245 -0.603,-5.245 ; -1.81,-5.145 -0.603,-5.145 ; -1.81,-5.045 -0.603,-5.045 ; -1.81,-4.945 -0.603,-4.945 ; -1.81,-4.845 -0.603,-4.845 ; -1.81,-4.745 -0.603,-4.745 ; -1.81,-4.645 -0.603,-4.645 ; -1.81,-4.545 -0.603,-4.545 ; -1.81,-3.105 -0.603,-3.105 ; -1.81,-3.005 -0.603,-3.005 ; -1.81,-2.905 -0.603,-2.905 ; -1.81,-2.805 -0.603,-2.805 ; -1.81,-2.705 -0.603,-2.705 ; -1.81,-2.605 -0.603,-2.605 ; -1.81,-2.505 -0.603,-2.505 ; -1.81,-2.405 -0.603,-2.405 ; -1.81,-2.305 -0.603,-2.305 ; -1.81,-2.205 -0.603,-2.205 ; -1.81,-2.105 -0.603,-2.105 ; -1.81,-2.005 -0.603,-2.005 ; -1.81,-0.565 -0.603,-0.565 ; -1.81,-0.465 -0.603,-0.465 ; -1.81,-0.365 -0.603,-0.365 ; -1.81,-0.265 -0.603,-0.265 ; -1.81,-0.165 -0.603,-0.165 ; -1.81,-0.065 -0.603,-0.065 ; -1.81,0.035 -0.603,0.035 ; -1.81,0.135 -0.603,0.135 ; -1.81,0.235 -0.603,0.235 ; -1.81,0.335 -0.603,0.335 ; -1.81,0.435 -0.603,0.435 ; -1.81,0.535 -0.603,0.535 ; -1.81,1.975 -0.603,1.975 ; -1.81,2.075 -0.603,2.075 ; -1.81,2.175 -0.603,2.175 ; -1.81,2.275 -0.603,2.275 ; -1.81,2.375 -0.603,2.375 ; -1.81,2.475 -0.603,2.475 ; -1.81,2.575 -0.603,2.575 ; -1.81,2.675 -0.603,2.675 ; -1.81,2.775 -0.603,2.775 ; -1.81,2.875 -0.603,2.875 ; -1.81,2.975 -0.603,2.975 ; -1.81,3.075 -0.603,3.075 ; -1.81,4.515 -0.603,4.515 ; -1.81,4.615 -0.603,4.615 ; -1.81,4.715 -0.603,4.715 ; -1.81,4.815 -0.603,4.815 ; -1.81,4.915 -0.603,4.915 ; -1.81,5.015 -0.603,5.015 ; -1.81,5.115 -0.603,5.115 ; -1.81,5.215 -0.603,5.215 ; -1.81,5.315 -0.603,5.315 ; -1.81,5.415 -0.603,5.415 ; -1.81,5.515 -0.603,5.515 ; -1.81,5.615 -0.603,5.615 ; -0.603,-5.715 -0.603,-4.445 ; -0.603,-3.175 -0.603,-1.905 ; -0.603,-0.635 -0.603,0.635 ; -0.603,1.905 -0.603,3.175 ; -0.603,4.445 -0.603,5.715 ; -3.35,-7.13 -3.35,6.13 -2.35,7.13 3.35,7.13 3.35,-7.13 -3.35,-7.13 ; -1.81,-5.715 1.81,-5.715 1.81,-4.445 -1.81,-4.445 -1.81,-5.715 ; -1.81,-3.175 -1.81,-1.905 1.81,-1.905 1.81,-3.175 -1.81,-3.175 ; -1.81,-0.635 1.81,-0.635 1.81,0.635 -1.81,0.635 -1.81,-0.635 ; -1.81,1.905 1.81,1.905 1.81,3.175 -1.81,3.175 -1.81,1.905 ; -1.81,4.445 1.81,4.445 1.81,5.715 -1.81,5.715 -1.81,4.445
  text "'.Designator'" at 3.252,-3.237 h0.8
  text "on" at -0.237,6.036 h0.8

## SW_DIP_SPSTx05_Slide_9.78x14.88mm_W8.61mm_P2.54mm [mm]
pads (10):
  rect 2.44x1.12 smd: 1(-4.305,5.08) 2(-4.305,2.54) 3(-4.305,0) 4(-4.305,-2.54) 5(-4.305,-5.08) 6(4.305,-5.08) 7(4.305,-2.54) 8(4.305,0) 9(4.305,2.54) 10(4.305,5.08)
F.SilkS:
  lines w0.12: -5.19,6.357 -5.19,7.74 -3.806,7.74 ; -4.95,-5.88 -4.95,-7.5 4.95,-7.5 4.95,-5.88 ; -4.95,-4.28 -4.95,-3.34 ; -4.95,-1.74 -4.95,-0.8 ; -4.95,0.8 -4.95,1.74 ; -4.95,3.34 -4.95,4.28 ; -4.95,5.88 -4.95,7.5 4.95,7.5 4.95,5.88 ; -2.03,-5.645 -0.677,-5.645 ; -2.03,-5.525 -0.677,-5.525 ; -2.03,-5.405 -0.677,-5.405 ; -2.03,-5.285 -0.677,-5.285 ; -2.03,-5.165 -0.677,-5.165 ; -2.03,-5.045 -0.677,-5.045 ; -2.03,-4.925 -0.677,-4.925 ; -2.03,-4.805 -0.677,-4.805 ; -2.03,-4.685 -0.677,-4.685 ; -2.03,-4.565 -0.677,-4.565 ; -2.03,-3.105 -0.677,-3.105 ; -2.03,-2.985 -0.677,-2.985 ; -2.03,-2.865 -0.677,-2.865 ; -2.03,-2.745 -0.677,-2.745 ; -2.03,-2.625 -0.677,-2.625 ; -2.03,-2.505 -0.677,-2.505 ; -2.03,-2.385 -0.677,-2.385 ; -2.03,-2.265 -0.677,-2.265 ; -2.03,-2.145 -0.677,-2.145 ; -2.03,-2.025 -0.677,-2.025 ; -2.03,-0.565 -0.677,-0.565 ; -2.03,-0.445 -0.677,-0.445 ; -2.03,-0.325 -0.677,-0.325 ; -2.03,-0.205 -0.677,-0.205 ; -2.03,-0.085 -0.677,-0.085 ; -2.03,0.035 -0.677,0.035 ; -2.03,0.155 -0.677,0.155 ; -2.03,0.275 -0.677,0.275 ; -2.03,0.395 -0.677,0.395 ; -2.03,0.515 -0.677,0.515 ; -2.03,1.975 -0.677,1.975 ; -2.03,2.095 -0.677,2.095 ; -2.03,2.215 -0.677,2.215 ; -2.03,2.335 -0.677,2.335 ; -2.03,2.455 -0.677,2.455 ; -2.03,2.575 -0.677,2.575 ; -2.03,2.695 -0.677,2.695 ; -2.03,2.815 -0.677,2.815 ; -2.03,2.935 -0.677,2.935 ; -2.03,3.055 -0.677,3.055 ; -2.03,4.515 -0.677,4.515 ; -2.03,4.635 -0.677,4.635 ; -2.03,4.755 -0.677,4.755 ; -2.03,4.875 -0.677,4.875 ; -2.03,4.995 -0.677,4.995 ; -2.03,5.115 -0.677,5.115 ; -2.03,5.235 -0.677,5.235 ; -2.03,5.355 -0.677,5.355 ; -2.03,5.475 -0.677,5.475 ; -2.03,5.595 -0.677,5.595 ; -0.677,-5.715 -0.677,-4.445 ; -0.677,-3.175 -0.677,-1.905 ; -0.677,-0.635 -0.677,0.635 ; -0.677,1.905 -0.677,3.175 ; -0.677,4.445 -0.677,5.715 ; 4.95,-4.28 4.95,-3.34 ; 4.95,-1.74 4.95,-0.8 ; 4.95,0.8 4.95,1.74 ; 4.95,3.34 4.95,4.28 ; -2.03,-5.715 2.03,-5.715 2.03,-4.445 -2.03,-4.445 -2.03,-5.715 ; -2.03,-3.175 -2.03,-1.905 2.03,-1.905 2.03,-3.175 -2.03,-3.175 ; -2.03,-0.635 -2.03,0.635 2.03,0.635 2.03,-0.635 -2.03,-0.635 ; -2.03,1.905 -2.03,3.175 2.03,3.175 2.03,1.905 -2.03,1.905 ; -2.03,4.445 2.03,4.445 2.03,5.715 -2.03,5.715 -2.03,4.445
F.CrtYd:
  lines w0.05: -5.8,-7.75 -5.8,7.75 5.8,7.75 5.8,-7.75 -5.8,-7.75
F.Fab:
  lines w0.1: -2.03,-5.645 -0.677,-5.645 ; -2.03,-5.545 -0.677,-5.545 ; -2.03,-5.445 -0.677,-5.445 ; -2.03,-5.345 -0.677,-5.345 ; -2.03,-5.245 -0.677,-5.245 ; -2.03,-5.145 -0.677,-5.145 ; -2.03,-5.045 -0.677,-5.045 ; -2.03,-4.945 -0.677,-4.945 ; -2.03,-4.845 -0.677,-4.845 ; -2.03,-4.745 -0.677,-4.745 ; -2.03,-4.645 -0.677,-4.645 ; -2.03,-4.545 -0.677,-4.545 ; -2.03,-3.105 -0.677,-3.105 ; -2.03,-3.005 -0.677,-3.005 ; -2.03,-2.905 -0.677,-2.905 ; -2.03,-2.805 -0.677,-2.805 ; -2.03,-2.705 -0.677,-2.705 ; -2.03,-2.605 -0.677,-2.605 ; -2.03,-2.505 -0.677,-2.505 ; -2.03,-2.405 -0.677,-2.405 ; -2.03,-2.305 -0.677,-2.305 ; -2.03,-2.205 -0.677,-2.205 ; -2.03,-2.105 -0.677,-2.105 ; -2.03,-2.005 -0.677,-2.005 ; -2.03,-0.565 -0.677,-0.565 ; -2.03,-0.465 -0.677,-0.465 ; -2.03,-0.365 -0.677,-0.365 ; -2.03,-0.265 -0.677,-0.265 ; -2.03,-0.165 -0.677,-0.165 ; -2.03,-0.065 -0.677,-0.065 ; -2.03,0.035 -0.677,0.035 ; -2.03,0.135 -0.677,0.135 ; -2.03,0.235 -0.677,0.235 ; -2.03,0.335 -0.677,0.335 ; -2.03,0.435 -0.677,0.435 ; -2.03,0.535 -0.677,0.535 ; -2.03,1.975 -0.677,1.975 ; -2.03,2.075 -0.677,2.075 ; -2.03,2.175 -0.677,2.175 ; -2.03,2.275 -0.677,2.275 ; -2.03,2.375 -0.677,2.375 ; -2.03,2.475 -0.677,2.475 ; -2.03,2.575 -0.677,2.575 ; -2.03,2.675 -0.677,2.675 ; -2.03,2.775 -0.677,2.775 ; -2.03,2.875 -0.677,2.875 ; -2.03,2.975 -0.677,2.975 ; -2.03,3.075 -0.677,3.075 ; -2.03,4.515 -0.677,4.515 ; -2.03,4.615 -0.677,4.615 ; -2.03,4.715 -0.677,4.715 ; -2.03,4.815 -0.677,4.815 ; -2.03,4.915 -0.677,4.915 ; -2.03,5.015 -0.677,5.015 ; -2.03,5.115 -0.677,5.115 ; -2.03,5.215 -0.677,5.215 ; -2.03,5.315 -0.677,5.315 ; -2.03,5.415 -0.677,5.415 ; -2.03,5.515 -0.677,5.515 ; -2.03,5.615 -0.677,5.615 ; -0.677,-5.715 -0.677,-4.445 ; -0.677,-3.175 -0.677,-1.905 ; -0.677,-0.635 -0.677,0.635 ; -0.677,1.905 -0.677,3.175 ; -0.677,4.445 -0.677,5.715 ; -4.89,-7.44 -4.89,6.44 -3.89,7.44 4.89,7.44 4.89,-7.44 -4.89,-7.44 ; -2.03,-5.715 2.03,-5.715 2.03,-4.445 -2.03,-4.445 -2.03,-5.715 ; -2.03,-3.175 2.03,-3.175 2.03,-1.905 -2.03,-1.905 -2.03,-3.175 ; -2.03,-0.635 -2.03,0.635 2.03,0.635 2.03,-0.635 -2.03,-0.635 ; -2.03,1.905 2.03,1.905 2.03,3.175 -2.03,3.175 -2.03,1.905 ; -2.03,4.445 2.03,4.445 2.03,5.715 -2.03,5.715 -2.03,4.445
  text "on" at 0.643,6.191 h0.8
  text "'.Designator'" at 4.132,-3.237 h0.8

## SW_DIP_SPSTx05_Slide_KingTek_DSHP05TJ_W5.25mm_P1.27mm_JPin [mm]
pads (10):
  rect 2.65x0.76 smd: 1(-2.625,2.54) 2(-2.625,1.27) 3(-2.625,0) 4(-2.625,-1.27) 5(-2.625,-2.54) 6(2.625,-2.54) 7(2.625,-1.27) 8(2.625,0) 9(2.625,1.27) 10(2.625,2.54)
F.SilkS:
  lines w0.12: -3.951,3.22 -2.761,3.22 -2.761,4.135 2.76,4.135 2.76,3.16 ; -2.761,-3.16 -2.761,-4.135 2.76,-4.135 2.76,-3.16
F.CrtYd:
  lines w0.05: -4.2,-4.4 4.2,-4.4 4.2,4.4 -4.2,4.4 -4.2,-4.4
F.Fab:
  lines w0.1: -1,-2.84 -0.333,-2.84 ; -1,-2.74 -0.333,-2.74 ; -1,-2.64 -0.333,-2.64 ; -1,-2.54 -0.333,-2.54 ; -1,-2.44 -0.333,-2.44 ; -1,-2.34 -0.333,-2.34 ; -1,-2.24 -0.333,-2.24 ; -1,-1.57 -0.333,-1.57 ; -1,-1.47 -0.333,-1.47 ; -1,-1.37 -0.333,-1.37 ; -1,-1.27 -0.333,-1.27 ; -1,-1.17 -0.333,-1.17 ; -1,-1.07 -0.333,-1.07 ; -1,-0.97 -0.333,-0.97 ; -1,-0.3 -0.333,-0.3 ; -1,-0.2 -0.333,-0.2 ; -1,-0.1 -0.333,-0.1 ; -1,0 -0.333,0 ; -1,0.1 -0.333,0.1 ; -1,0.2 -0.333,0.2 ; -1,0.3 -0.333,0.3 ; -1,0.97 -0.333,0.97 ; -1,1.07 -0.333,1.07 ; -1,1.17 -0.333,1.17 ; -1,1.27 -0.333,1.27 ; -1,1.37 -0.333,1.37 ; -1,1.47 -0.333,1.47 ; -1,1.57 -0.333,1.57 ; -1,2.24 -0.333,2.24 ; -1,2.34 -0.333,2.34 ; -1,2.44 -0.333,2.44 ; -1,2.54 -0.333,2.54 ; -1,2.64 -0.333,2.64 ; -1,2.74 -0.333,2.74 ; -1,2.84 -0.333,2.84 ; -0.333,-2.14 -0.333,-2.94 -1,-2.94 ; -0.333,-1.67 -0.333,-0.87 ; -0.333,-0.4 -0.333,0.4 ; -0.333,0.87 -0.333,1.67 ; -0.333,2.14 -0.333,2.94 ; -1,-2.94 -1,-2.14 1,-2.14 1,-2.94 -1,-2.94 ; -2.7,-4.075 -2.7,3.075 -1.7,4.075 2.7,4.075 2.7,-4.075 -2.7,-4.075 ; -1,-1.67 -1,-0.87 1,-0.87 1,-1.67 -1,-1.67 ; -1,-0.4 1,-0.4 1,0.4 -1,0.4 -1,-0.4 ; -1,0.87 -1,1.67 1,1.67 1,0.87 -1,0.87 ; -1,2.14 1,2.14 1,2.94 -1,2.94 -1,2.14
  text "'.Designator'" at 2.522,-3.237 h0.8
  text "on" at -0.127,3.121 h0.8

## SW_DIP_SPSTx05_Slide_KingTek_DSHP05TS_W7.62mm_P1.27mm [mm]
pads (10):
  rect 1.27x0.76 smd: 1(-3.81,2.54) 2(-3.81,1.27) 3(-3.81,0) 4(-3.81,-1.27) 5(-3.81,-2.54) 6(3.81,-2.54) 7(3.81,-1.27) 8(3.81,0) 9(3.81,1.27) 10(3.81,2.54)
F.SilkS:
  lines w0.12: -4.446,3.22 -2.76,3.22 -2.76,4.036 2.76,4.036 2.76,2.601 ; -2.76,-2.6 -2.76,-4.035 2.76,-4.035 2.76,-2.6
F.CrtYd:
  lines w0.05: -4.7,-4.3 4.7,-4.3 4.7,4.3 -4.7,4.3 -4.7,-4.3
F.Fab:
  lines w0.1: -1,-2.84 -0.333,-2.84 ; -1,-2.74 -0.333,-2.74 ; -1,-2.64 -0.333,-2.64 ; -1,-2.54 -0.333,-2.54 ; -1,-2.44 -0.333,-2.44 ; -1,-2.34 -0.333,-2.34 ; -1,-2.24 -0.333,-2.24 ; -1,-1.57 -0.333,-1.57 ; -1,-1.47 -0.333,-1.47 ; -1,-1.37 -0.333,-1.37 ; -1,-1.27 -0.333,-1.27 ; -1,-1.17 -0.333,-1.17 ; -1,-1.07 -0.333,-1.07 ; -1,-0.97 -0.333,-0.97 ; -1,-0.3 -0.333,-0.3 ; -1,-0.2 -0.333,-0.2 ; -1,-0.1 -0.333,-0.1 ; -1,0 -0.333,0 ; -1,0.1 -0.333,0.1 ; -1,0.2 -0.333,0.2 ; -1,0.3 -0.333,0.3 ; -1,0.97 -0.333,0.97 ; -1,1.07 -0.333,1.07 ; -1,1.17 -0.333,1.17 ; -1,1.27 -0.333,1.27 ; -1,1.37 -0.333,1.37 ; -1,1.47 -0.333,1.47 ; -1,1.57 -0.333,1.57 ; -1,2.24 -0.333,2.24 ; -1,2.34 -0.333,2.34 ; -1,2.44 -0.333,2.44 ; -1,2.54 -0.333,2.54 ; -1,2.64 -0.333,2.64 ; -1,2.74 -0.333,2.74 ; -1,2.84 -0.333,2.84 ; -0.333,-2.14 -0.333,-2.94 -1,-2.94 ; -0.333,-1.67 -0.333,-0.87 ; -0.333,-0.4 -0.333,0.4 ; -0.333,0.87 -0.333,1.67 ; -0.333,2.14 -0.333,2.94 ; -1,-2.94 1,-2.94 1,-2.14 -1,-2.14 -1,-2.94 ; -2.7,-3.975 2.7,-3.975 2.7,3.975 -1.7,3.975 -2.7,2.975 -2.7,-3.975 ; -1,-1.67 -1,-0.87 1,-0.87 1,-1.67 -1,-1.67 ; -1,-0.4 -1,0.4 1,0.4 1,-0.4 -1,-0.4 ; -1,0.87 -1,1.67 1,1.67 1,0.87 -1,0.87 ; -1,2.14 -1,2.94 1,2.94 1,2.14 -1,2.14
  text "on" at -0.72,3.071 h0.8
  text "'.Designator'" at 2.522,-3.237 h0.8

## SW_DIP_SPSTx05_Slide_Omron_A6S-510x_W8.9mm_P2.54mm [mm]
pads (10):
  rect 1.5x1.1 smd: 1(-4.45,5.08) 2(-4.45,2.54) 3(-4.45,0) 4(-4.45,-2.54) 5(-4.45,-5.08) 6(4.45,-5.08) 7(4.45,-2.54) 8(4.45,0) 9(4.45,2.54) 10(4.45,5.08)
F.SilkS:
  lines w0.12: -5.2,5.931 -3.16,5.931 -3.16,6.88 3.16,6.88 3.16,5.141 ; -3.16,-5.14 -3.16,-6.88 3.16,-6.88 3.16,-5.14
F.CrtYd:
  lines w0.05: -5.45,-7.15 -5.45,7.15 5.45,7.15 5.45,-7.15 -5.45,-7.15
F.Fab:
  lines w0.1: -1.5,-5.53 -0.5,-5.53 ; -1.5,-5.43 -0.5,-5.43 ; -1.5,-5.33 -0.5,-5.33 ; -1.5,-5.23 -0.5,-5.23 ; -1.5,-5.13 -0.5,-5.13 ; -1.5,-5.03 -0.5,-5.03 ; -1.5,-4.93 -0.5,-4.93 ; -1.5,-4.83 -0.5,-4.83 ; -1.5,-4.73 -0.5,-4.73 ; -1.5,-4.63 -0.5,-4.63 ; -1.5,-2.99 -0.5,-2.99 ; -1.5,-2.89 -0.5,-2.89 ; -1.5,-2.79 -0.5,-2.79 ; -1.5,-2.69 -0.5,-2.69 ; -1.5,-2.59 -0.5,-2.59 ; -1.5,-2.49 -0.5,-2.49 ; -1.5,-2.39 -0.5,-2.39 ; -1.5,-2.29 -0.5,-2.29 ; -1.5,-2.19 -0.5,-2.19 ; -1.5,-2.09 -0.5,-2.09 ; -1.5,-0.45 -0.5,-0.45 ; -1.5,-0.35 -0.5,-0.35 ; -1.5,-0.25 -0.5,-0.25 ; -1.5,-0.15 -0.5,-0.15 ; -1.5,-0.05 -0.5,-0.05 ; -1.5,0.05 -0.5,0.05 ; -1.5,0.15 -0.5,0.15 ; -1.5,0.25 -0.5,0.25 ; -1.5,0.35 -0.5,0.35 ; -1.5,0.45 -0.5,0.45 ; -1.5,2.09 -0.5,2.09 ; -1.5,2.19 -0.5,2.19 ; -1.5,2.29 -0.5,2.29 ; -1.5,2.39 -0.5,2.39 ; -1.5,2.49 -0.5,2.49 ; -1.5,2.59 -0.5,2.59 ; -1.5,2.69 -0.5,2.69 ; -1.5,2.79 -0.5,2.79 ; -1.5,2.89 -0.5,2.89 ; -1.5,2.99 -0.5,2.99 ; -1.5,4.63 -0.5,4.63 ; -1.5,4.73 -0.5,4.73 ; -1.5,4.83 -0.5,4.83 ; -1.5,4.93 -0.5,4.93 ; -1.5,5.03 -0.5,5.03 ; -1.5,5.13 -0.5,5.13 ; -1.5,5.23 -0.5,5.23 ; -1.5,5.33 -0.5,5.33 ; -1.5,5.43 -0.5,5.43 ; -1.5,5.53 -0.5,5.53 ; -0.5,-4.53 -0.5,-5.63 -1.5,-5.63 ; -0.5,-1.99 -0.5,-3.09 -1.5,-3.09 ; -0.5,0.55 -0.5,-0.55 -1.5,-0.55 ; -0.5,1.99 -0.5,3.09 ; -0.5,5.63 -0.5,4.53 -1.5,4.53 ; -1.5,-5.63 -1.5,-4.53 1.5,-4.53 1.5,-5.63 -1.5,-5.63 ; -1.5,-3.09 1.5,-3.09 1.5,-1.99 -1.5,-1.99 -1.5,-3.09 ; -1.5,-0.55 1.5,-0.55 1.5,0.55 -1.5,0.55 -1.5,-0.55 ; -1.5,4.53 1.5,4.53 1.5,5.63 -1.5,5.63 -1.5,4.53 ; -3.1,-6.82 3.1,-6.82 3.1,6.82 -2.1,6.82 -3.1,5.82 -3.1,-6.82 ; -1.5,1.99 1.5,1.99 1.5,3.09 -1.5,3.09 -1.5,1.99
  text "on" at -0.59,5.838 h0.8
  text "'.Designator'" at 2.972,-3.237 h0.8

## SW_DIP_SPSTx06_Slide_6.7x16.8mm_W6.73mm_P2.54mm_LowProfile_JPin [mm]
pads (12):
  rect 2.16x1.12 smd: 1(-3.365,6.35) 2(-3.365,3.81) 3(-3.365,1.27) 4(-3.365,-1.27) 5(-3.365,-3.81) 6(-3.365,-6.35) 7(3.365,-6.35) 8(3.365,-3.81) 9(3.365,-1.27) 10(3.365,1.27) 11(3.365,3.81) 12(3.365,6.35)
F.SilkS:
  lines w0.12: -3.65,7.317 -3.65,8.7 -2.267,8.7 ; -3.41,-7.15 -3.41,-8.461 3.41,-8.461 3.41,-7.15 ; -3.41,-5.55 -3.41,-4.61 ; -3.41,-3.01 -3.41,-2.07 ; -3.41,-0.47 -3.41,0.47 ; -3.41,2.07 -3.41,3.01 ; -3.41,4.61 -3.41,5.55 ; -3.41,7.15 -3.41,8.46 3.41,8.46 3.41,7.15 ; -1.81,-6.915 -0.603,-6.915 ; -1.81,-6.795 -0.603,-6.795 ; -1.81,-6.675 -0.603,-6.675 ; -1.81,-6.555 -0.603,-6.555 ; -1.81,-6.435 -0.603,-6.435 ; -1.81,-6.315 -0.603,-6.315 ; -1.81,-6.195 -0.603,-6.195 ; -1.81,-6.075 -0.603,-6.075 ; -1.81,-5.955 -0.603,-5.955 ; -1.81,-5.835 -0.603,-5.835 ; -1.81,-4.375 -0.603,-4.375 ; -1.81,-4.255 -0.603,-4.255 ; -1.81,-4.135 -0.603,-4.135 ; -1.81,-4.015 -0.603,-4.015 ; -1.81,-3.895 -0.603,-3.895 ; -1.81,-3.775 -0.603,-3.775 ; -1.81,-3.655 -0.603,-3.655 ; -1.81,-3.535 -0.603,-3.535 ; -1.81,-3.415 -0.603,-3.415 ; -1.81,-3.295 -0.603,-3.295 ; -1.81,-1.835 -0.603,-1.835 ; -1.81,-1.715 -0.603,-1.715 ; -1.81,-1.595 -0.603,-1.595 ; -1.81,-1.475 -0.603,-1.475 ; -1.81,-1.355 -0.603,-1.355 ; -1.81,-1.235 -0.603,-1.235 ; -1.81,-1.115 -0.603,-1.115 ; -1.81,-0.995 -0.603,-0.995 ; -1.81,-0.875 -0.603,-0.875 ; -1.81,-0.755 -0.603,-0.755 ; -1.81,0.705 -0.603,0.705 ; -1.81,0.825 -0.603,0.825 ; -1.81,0.945 -0.603,0.945 ; -1.81,1.065 -0.603,1.065 ; -1.81,1.185 -0.603,1.185 ; -1.81,1.305 -0.603,1.305 ; -1.81,1.425 -0.603,1.425 ; -1.81,1.545 -0.603,1.545 ; -1.81,1.665 -0.603,1.665 ; -1.81,1.785 -0.603,1.785 ; -1.81,3.245 -0.603,3.245 ; -1.81,3.365 -0.603,3.365 ; -1.81,3.485 -0.603,3.485 ; -1.81,3.605 -0.603,3.605 ; -1.81,3.725 -0.603,3.725 ; -1.81,3.845 -0.603,3.845 ; -1.81,3.965 -0.603,3.965 ; -1.81,4.085 -0.603,4.085 ; -1.81,4.205 -0.603,4.205 ; -1.81,4.325 -0.603,4.325 ; -1.81,5.785 -0.603,5.785 ; -1.81,5.905 -0.603,5.905 ; -1.81,6.025 -0.603,6.025 ; -1.81,6.145 -0.603,6.145 ; -1.81,6.265 -0.603,6.265 ; -1.81,6.385 -0.603,6.385 ; -1.81,6.505 -0.603,6.505 ; -1.81,6.625 -0.603,6.625 ; -1.81,6.745 -0.603,6.745 ; -1.81,6.865 -0.603,6.865 ; -0.603,-6.985 -0.603,-5.715 ; -0.603,-4.445 -0.603,-3.175 ; -0.603,-1.905 -0.603,-0.635 ; -0.603,0.635 -0.603,1.905 ; -0.603,3.175 -0.603,4.445 ; -0.603,5.715 -0.603,6.985 ; 3.41,-5.55 3.41,-4.61 ; 3.41,-3.01 3.41,-2.07 ; 3.41,-0.47 3.41,0.47 ; 3.41,2.07 3.41,3.01 ; 3.41,4.61 3.41,5.55 ; -1.81,-6.985 -1.81,-5.715 1.81,-5.715 1.81,-6.985 -1.81,-6.985 ; -1.81,-4.445 1.81,-4.445 1.81,-3.175 -1.81,-3.175 -1.81,-4.445 ; -1.81,-1.905 1.81,-1.905 1.81,-0.635 -1.81,-0.635 -1.81,-1.905 ; -1.81,0.635 1.81,0.635 1.81,1.905 -1.81,1.905 -1.81,0.635 ; -1.81,3.175 1.81,3.175 1.81,4.445 -1.81,4.445 -1.81,3.175 ; -1.81,5.715 1.81,5.715 1.81,6.985 -1.81,6.985 -1.81,5.715
F.CrtYd:
  lines w0.05: -4.7,-8.75 -4.7,8.75 4.7,8.75 4.7,-8.75 -4.7,-8.75
F.Fab:
  lines w0.1: -1.81,-6.915 -0.603,-6.915 ; -1.81,-6.815 -0.603,-6.815 ; -1.81,-6.715 -0.603,-6.715 ; -1.81,-6.615 -0.603,-6.615 ; -1.81,-6.515 -0.603,-6.515 ; -1.81,-6.415 -0.603,-6.415 ; -1.81,-6.315 -0.603,-6.315 ; -1.81,-6.215 -0.603,-6.215 ; -1.81,-6.115 -0.603,-6.115 ; -1.81,-6.015 -0.603,-6.015 ; -1.81,-5.915 -0.603,-5.915 ; -1.81,-5.815 -0.603,-5.815 ; -1.81,-4.375 -0.603,-4.375 ; -1.81,-4.275 -0.603,-4.275 ; -1.81,-4.175 -0.603,-4.175 ; -1.81,-4.075 -0.603,-4.075 ; -1.81,-3.975 -0.603,-3.975 ; -1.81,-3.875 -0.603,-3.875 ; -1.81,-3.775 -0.603,-3.775 ; -1.81,-3.675 -0.603,-3.675 ; -1.81,-3.575 -0.603,-3.575 ; -1.81,-3.475 -0.603,-3.475 ; -1.81,-3.375 -0.603,-3.375 ; -1.81,-3.275 -0.603,-3.275 ; -1.81,-1.835 -0.603,-1.835 ; -1.81,-1.735 -0.603,-1.735 ; -1.81,-1.635 -0.603,-1.635 ; -1.81,-1.535 -0.603,-1.535 ; -1.81,-1.435 -0.603,-1.435 ; -1.81,-1.335 -0.603,-1.335 ; -1.81,-1.235 -0.603,-1.235 ; -1.81,-1.135 -0.603,-1.135 ; -1.81,-1.035 -0.603,-1.035 ; -1.81,-0.935 -0.603,-0.935 ; -1.81,-0.835 -0.603,-0.835 ; -1.81,-0.735 -0.603,-0.735 ; -1.81,0.705 -0.603,0.705 ; -1.81,0.805 -0.603,0.805 ; -1.81,0.905 -0.603,0.905 ; -1.81,1.005 -0.603,1.005 ; -1.81,1.105 -0.603,1.105 ; -1.81,1.205 -0.603,1.205 ; -1.81,1.305 -0.603,1.305 ; -1.81,1.405 -0.603,1.405 ; -1.81,1.505 -0.603,1.505 ; -1.81,1.605 -0.603,1.605 ; -1.81,1.705 -0.603,1.705 ; -1.81,1.805 -0.603,1.805 ; -1.81,3.245 -0.603,3.245 ; -1.81,3.345 -0.603,3.345 ; -1.81,3.445 -0.603,3.445 ; -1.81,3.545 -0.603,3.545 ; -1.81,3.645 -0.603,3.645 ; -1.81,3.745 -0.603,3.745 ; -1.81,3.845 -0.603,3.845 ; -1.81,3.945 -0.603,3.945 ; -1.81,4.045 -0.603,4.045 ; -1.81,4.145 -0.603,4.145 ; -1.81,4.245 -0.603,4.245 ; -1.81,4.345 -0.603,4.345 ; -1.81,5.785 -0.603,5.785 ; -1.81,5.885 -0.603,5.885 ; -1.81,5.985 -0.603,5.985 ; -1.81,6.085 -0.603,6.085 ; -1.81,6.185 -0.603,6.185 ; -1.81,6.285 -0.603,6.285 ; -1.81,6.385 -0.603,6.385 ; -1.81,6.485 -0.603,6.485 ; -1.81,6.585 -0.603,6.585 ; -1.81,6.685 -0.603,6.685 ; -1.81,6.785 -0.603,6.785 ; -1.81,6.885 -0.603,6.885 ; -0.603,-6.985 -0.603,-5.715 ; -0.603,-4.445 -0.603,-3.175 ; -0.603,-1.905 -0.603,-0.635 ; -0.603,0.635 -0.603,1.905 ; -0.603,3.175 -0.603,4.445 ; -0.603,5.715 -0.603,6.985 ; -3.35,-8.4 3.35,-8.4 3.35,8.4 -2.35,8.4 -3.35,7.4 -3.35,-8.4 ; -1.81,-6.985 1.81,-6.985 1.81,-5.715 -1.81,-5.715 -1.81,-6.985 ; -1.81,-4.445 -1.81,-3.175 1.81,-3.175 1.81,-4.445 -1.81,-4.445 ; -1.81,-1.905 1.81,-1.905 1.81,-0.635 -1.81,-0.635 -1.81,-1.905 ; -1.81,0.635 -1.81,1.905 1.81,1.905 1.81,0.635 -1.81,0.635 ; -1.81,3.175 1.81,3.175 1.81,4.445 -1.81,4.445 -1.81,3.175 ; -1.81,5.715 1.81,5.715 1.81,6.985 -1.81,6.985 -1.81,5.715
  text "on" at 0.233,7.306 h0.8
  text "'.Designator'" at 3.252,-3.237 h0.8